# Altium footprint library MasterBoardRevA.PcbLib: 24 footprints (part 1 of 2)
Each footprint in its own frame and in the unit in brackets; x right, y up, seen from the top. Pads: shape width x height; smd on the part's side, far side on the other; paste and mask are expansions set on the pad; w line width, h text height; cw(c..) or ccw(c..) is an arc to the next point about the centre after c.
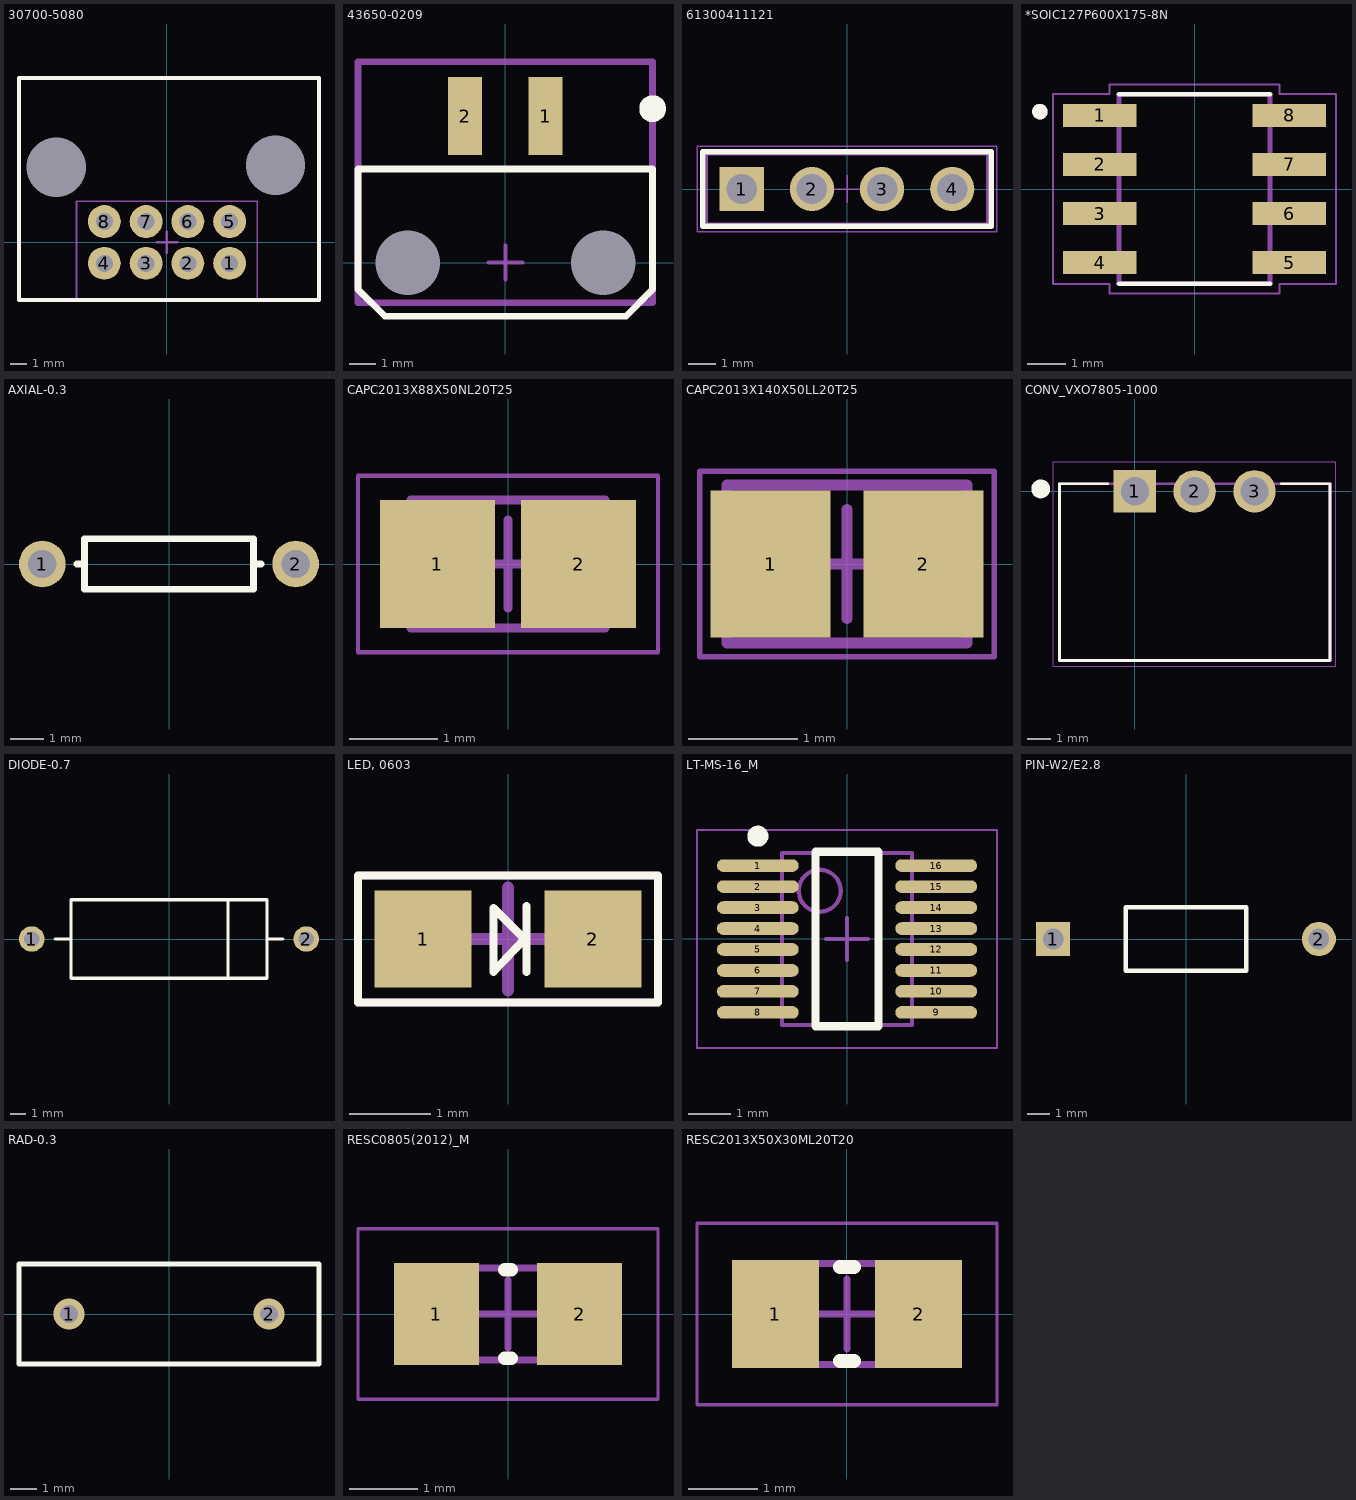
[diagram p0: the footprints below, top view; thin cyan lines are the x and y axes]

## 30700-5080 [mm]
pads (10):
  round 2 hole 1.04: 1(3.81,-1.27) 2(1.27,-1.27) 3(-1.27,-1.27) 4(-3.81,-1.27) 5(3.81,1.27) 6(1.27,1.27) 7(-1.27,1.27) 8(-3.81,1.27)
  round 0 hole 3.6 unplated: ""(-6.731,4.572)
  round 3 hole 3.6 unplated: ""(6.604,4.699)
Top Overlay:
  lines w0.254: -9,-3.5 -9,10 9.25,10 9.25,-3.5 -9,-3.5
Mechanical 15:
  lines w0.1: -5.5,-3.5 -5.5,2.5 5.5,2.5 5.5,-3.5 -5.5,-3.5
  lines w0.152: -0.635,0 0.635,0 ; 0,-0.635 0,0.635
3D body "307004080.stp": height 22.04, standoff -4.87, extent -9.096,-9.963 9.046,8.843

## 43650-0209 [mm]
pads (4):
  rect 1.27x2.92 smd: 1(1.5,5.47) 2(-1.5,5.47)
  round 0 hole 2.41 unplated: ""(-3.65,0) ""(3.65,0)
Top Overlay:
  circle w0.6: c5.5,5.75 r0.2
  lines w0.254: -5.5,-1 -4.5,-2 4.5,-2 5.5,-1 5.5,3.5 -5.5,3.5 -5.5,-1
Mechanical 15:
  lines w0.152: -0.635,0 0.635,0 ; 0,-0.635 0,0.635
  lines w0.254: -5.5,-1.5 -5.5,7.5 2,7.5 5.5,7.5 5.5,-1.5 -5.5,-1.5
3D body "436500209.stp": height 5.64, standoff -1.97, extent -4.825,-4.6 4.825,6.14

## 61300411121 [mm]
pads (4):
  rect 1.6x1.6 hole 1.1: 1(-3.81,0)
  round 1.6 hole 1.1: 2(-1.27,0) 3(1.27,0) 4(3.81,0)
Top Overlay:
  lines w0.2: -5.23,-1.345 -5.23,1.345 5.23,1.345 5.23,-1.345 -5.23,-1.345
Mechanical 13:
  lines w0.1: -5.08,-1.27 5.08,-1.27 5.08,1.27 -5.08,1.27 -5.08,-1.27
Mechanical 15:
  lines w0.05: -0.5,0 0.5,0 ; 0,-0.5 0,0.5 ; -5.43,-1.545 5.43,-1.545 5.43,1.545 -5.43,1.545 -5.43,-1.545
3D body "61300411121.stp": height 8.57, standoff -2.97, extent -5.08,-1.27 5.08,1.27

## *SOIC127P600X175-8N [mm]
pads (8):
  rect 1.9x0.6 smd: 1(-2.455,1.905) 2(-2.455,0.635) 3(-2.455,-0.635) 4(-2.455,-1.905) 5(2.455,-1.905) 6(2.455,-0.635) 7(2.455,0.635) 8(2.455,1.905)
Top Overlay:
  circle w0.2: c-4,2 r0.1
  lines w0.127: -1.95,-2.45 1.95,-2.45 ; -1.95,2.45 1.95,2.45
Mechanical 4:
  circle w0.2: c-4,2 r0.1
  circle w0.2: c-4,2 r0.1
  lines w0.127: -1.95,-2.45 1.95,-2.45 ; -1.95,-2.45 -1.95,2.45 ; -1.95,-2.45 1.95,-2.45 ; -1.95,-2.45 -1.95,2.45 ; -1.95,2.45 1.95,2.45 ; -1.95,2.45 1.95,2.45 ; 1.95,-2.45 1.95,2.45 ; 1.95,-2.45 1.95,2.45
Mechanical 16:
  lines w0.05: -3.66,-2.46 -3.66,2.46 -2.2,2.46 -2.2,2.7 2.2,2.7 2.2,2.46 3.66,2.46 3.66,-2.46 2.2,-2.46 2.2,-2.7 -2.2,-2.7 -2.2,-2.46 -3.66,-2.46

## AXIAL-0.3 [mm]
pads (2):
  round 1.4 hole 0.85: 1(-3.81,0) 2(3.81,0)
Top Overlay:
  lines w0.2: -2.769,0 -2.54,0 ; 2.769,0 2.54,0 ; 2.54,0 2.54,0.762 -2.54,0.762 -2.54,-0.762 2.54,-0.762 2.54,0

## CAPC2013X88X50NL20T25 [mm]
pads (2):
  rect 1.3x1.45 smd: 1(-0.8,0) 2(0.8,0)
Mechanical 13:
  lines w0.1: -1.1,-0.725 1.1,-0.725 1.1,0.725 -1.1,0.725 -1.1,-0.725
Mechanical 15:
  lines w0.05: -1.7,-1 1.7,-1 1.7,1 -1.7,1 -1.7,-1
  lines w0.1: -0.5,0 0.5,0 ; 0,-0.5 0,0.5
3D body: height 0.88, standoff 0, extent 0.6,-0.725 1.1,0.725
3D body: height 0.88, standoff 0, extent -1.1,-0.725 -0.6,0.725
3D body: height 0.88, standoff 0, extent -0.6,-0.725 0.6,0.725

## CAPC2013X140X50LL20T25 [mm]
pads (2):
  rect 1.1x1.35 smd: 1(-0.7,0) 2(0.7,0)
Mechanical 13:
  lines w0.1: -1.1,-0.725 1.1,-0.725 1.1,0.725 -1.1,0.725 -1.1,-0.725
Mechanical 15:
  lines w0.05: -1.35,-0.85 1.35,-0.85 1.35,0.85 -1.35,0.85 -1.35,-0.85
  lines w0.1: -0.5,0 0.5,0 ; 0,-0.5 0,0.5
3D body: height 1.4, standoff 0, extent 0.6,-0.725 1.1,0.725
3D body: height 1.4, standoff 0, extent -1.1,-0.725 -0.6,0.725
3D body: height 1.4, standoff 0, extent -0.6,-0.725 0.6,0.725

## CONV_VXO7805-1000 [mm]
pads (3):
  rect 1.8x1.8 hole 1.2: 1(0,0)
  round 1.8 hole 1.2: 2(2.54,0) 3(5.08,0)
Top Overlay:
  circle w0.4: c-4,0.1 r0.2
  lines w0.127: -1.154,0.32 -3.21,0.32 -3.21,-7.18 8.29,-7.18 8.29,0.32 6.234,0.32
Mechanical 1:
  lines w0.05: -3.46,-7.43 -3.46,1.254 8.54,1.254 8.54,-7.43 -3.46,-7.43
  lines w0.127: -3.21,-7.18 -3.21,0.32 8.29,0.32 8.29,-7.18 -3.21,-7.18
3D body: height 0.25, standoff 0, extent -3.21,0.32 -3.21,0.32
3D body "CUI_VXO7805-1000.step": height 17.5, standoff -4.1, extent -3.118,-6.761 8.382,0.32

## DIODE-0.7 [mm]
pads (2):
  round 1.65 hole 1: 1(-8.89,0) 2(8.89,0)
Top Overlay:
  lines w0.2: -7.366,0 -6.35,0 ; 3.81,-2.54 3.81,2.54 ; 6.35,0 7.366,0 ; -6.35,-2.54 6.35,-2.54 6.35,2.54 -6.35,2.54 -6.35,-2.54

## LED, 0603 [mm]
pads (2):
  rect 1.2x1.2 smd: 1(-1.05,0) 2(1.05,0)
Top Overlay:
  lines w0.1: 0.229,-0.406 0.229,0.406 ; -1.854,-0.787 -1.854,0.787 1.854,0.787 1.854,-0.787 -1.854,-0.787 ; -0.178,-0.406 0.203,0 -0.178,0.381 -0.178,-0.406
Mechanical 15:
  lines w0.1: -1.854,-0.787 1.854,-0.787 1.854,0.787 -1.854,0.787 -1.854,-0.787
  lines w0.152: -0.635,0 0.635,0 ; 0,-0.635 0,0.635
3D body "User Library-led_0805.step": height 1.1, standoff 0, extent -1.004,-0.631 1.016,0.619

## LT-MS-16_M [mm]
pads (16):
  oval 1.95x0.3 smd: 1(-2.125,1.75) 2(-2.125,1.25) 3(-2.125,0.75) 4(-2.125,0.25) 5(-2.125,-0.25) 6(-2.125,-0.75) 7(-2.125,-1.25) 8(-2.125,-1.75) 9(2.125,-1.75) 10(2.125,-1.25) 11(2.125,-0.75) 12(2.125,-0.25) 13(2.125,0.25) 14(2.125,0.75) 15(2.125,1.25) 16(2.125,1.75)
Top Overlay:
  circle w0.25: c-2.125,2.45 r0.125
  lines w0.2: -0.75,-2.075 -0.75,2.075 0.75,2.075 0.75,-2.075 -0.75,-2.075
Mechanical 13:
  circle w0.1: c-0.65,1.15 r0.5
  lines w0.1: -1.55,-2.05 -1.55,2.05 1.55,2.05 1.55,-2.05 -1.55,-2.05
Mechanical 15:
  lines w0.05: -3.575,-2.6 -3.575,2.6 3.575,2.6 3.575,-2.6 -3.575,-2.6
  lines w0.1: -0.5,0 0.5,0 ; 0,-0.5 0,0.5
3D body: height 1.1, standoff 0.05, extent -1.55,-2.05 1.55,2.05

## MOSFET [mm]
via 5.08,0 diameter 1.27 hole 1.016
via 2.54,0 diameter 1.27 hole 1.016
via 0,0 diameter 1.27 hole 1.016
3D body "Mosfet IRLB3034.step": height 19.03, standoff -9.55, extent -2.553,-2.284 7.747,1.016

## PIN-W2/E2.8 [mm]
pads (2):
  rect 1.5x1.5 hole 0.9: 1(-5.825,0)
  round 1.5 hole 0.9: 2(5.825,0)
Top Overlay:
  lines w0.2: -2.65,-1.4 2.65,-1.4 2.65,1.4 -2.65,1.4 -2.65,-1.4

## RAD-0.3 [mm]
pads (2):
  round 1.2 hole 0.7: 1(-3.81,0) 2(3.81,0)
Top Overlay:
  lines w0.2: -5.715,-1.905 -5.715,1.905 5.715,1.905 5.715,-1.905 -5.715,-1.905

## RESC0805(2012)_M [mm]
pads (2):
  rect 1.25x1.5 smd: 1(-1.05,0) 2(1.05,0)
Top Overlay:
  lines w0.2: -0.05,-0.65 0.05,-0.65 ; -0.05,0.65 0.05,0.65
Mechanical 13:
  lines w0.1: -1.1,-0.675 -1.1,0.675 1.1,0.675 1.1,-0.675 -1.1,-0.675
Mechanical 15:
  lines w0.05: -2.2,-1.25 -2.2,1.25 2.2,1.25 2.2,-1.25 -2.2,-1.25
  lines w0.1: -0.5,0 0.5,0 ; 0,-0.5 0,0.5
3D body: height 0.7, standoff 0, extent -1.1,-0.675 -0.68,0.675
3D body: height 0.7, standoff 0, extent -0.68,-0.675 0.68,0.675
3D body: height 0.7, standoff 0, extent 0.68,-0.675 1.1,0.675

## RESC2013X50X30ML20T20 [mm]
pads (2):
  rect 1.25x1.55 smd: 1(-1.025,0) 2(1.025,0)
Top Overlay:
  lines w0.2: -0.1,-0.675 0.1,-0.675 ; -0.1,0.675 0.1,0.675
Mechanical 13:
  lines w0.1: -1.1,-0.725 -1.1,0.725 1.1,0.725 1.1,-0.725 -1.1,-0.725
Mechanical 15:
  lines w0.05: -2.15,-1.3 -2.15,1.3 2.15,1.3 2.15,-1.3 -2.15,-1.3
  lines w0.1: -0.5,0 0.5,0 ; 0,-0.5 0,0.5
3D body: height 0.5, standoff 0, extent -0.8,-0.725 0.8,0.725
3D body: height 0.5, standoff 0, extent -1.1,-0.725 -0.8,0.725
3D body: height 0.5, standoff 0, extent 0.8,-0.725 1.1,0.725